# EAGLE library part ATTINY1614-SSNR (library ATTINY1614-SSNR)
20MHz, SOIC, 85C, Green, 14 SOIC .150in T/R
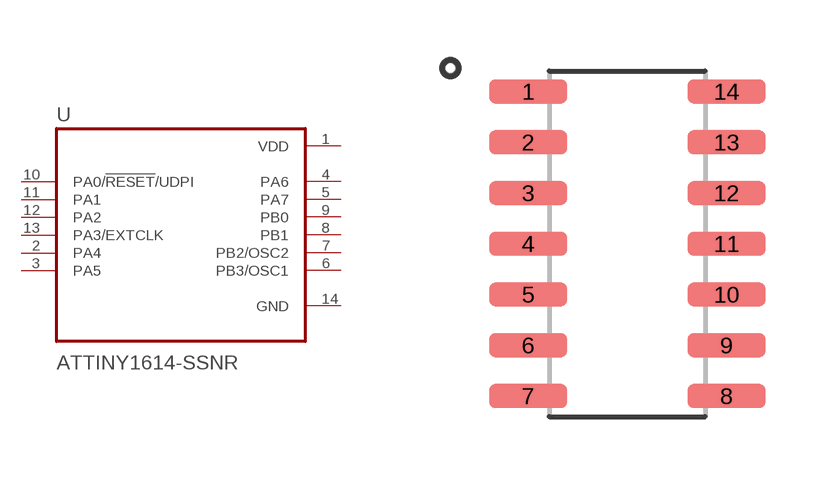
[diagram p0: symbol with the pads of SOIC127P600X175-14N; footprint SOIC127P600X175-14N]

Designator prefix U

## ATTINY1614-SSNR (Availability: Unavailable; Description: AVR tinyAVR™ 1 Microcontroller IC 8-Bit 20MHz 16KB _16K x 8_ FLASH 14-SOIC; MF: Microchip; MP: ATTINY1614-SSNR; Package: SO-14 Microchip; Price: None)  [SOIC127P600X175-14N]
1  VDD  pwr
2  PA4
3  PA5
4  PA6
5  PA7
6  PB3/OSC1
7  PB2/OSC2
8  PB1
9  PB0
10  PA0/!RESET!/UDPI
11  PA1
12  PA2
13  PA3/EXTCLK
14  GND  pwr

## Footprint SOIC127P600X175-14N (pad centres in mm)
smd 1.95 x 0.59: 1 -2.48,3.81; 2 -2.48,2.54; 3 -2.48,1.27; 4 -2.48,0; 5 -2.48,-1.27; 6 -2.48,-2.54; 7 -2.48,-3.81; 8 2.48,-3.81; 9 2.48,-2.54; 10 2.48,-1.27; 11 2.48,0; 12 2.48,1.27; 13 2.48,2.54; 14 2.48,3.81